# Altium schematic symbol library 6437288-6.SchLib: 1 symbol
Pins are listed as number, name and electrical type; pins without a type are passive.

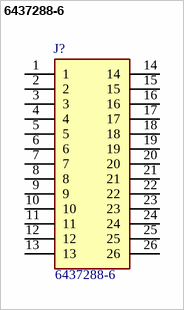
[diagram p0: symbol 6437288-6]

## 6437288-6
designator J?
Header vert 26 way 4 row Tab Superseal; Manufacturer_Name: TE Connectivity; Geometry.Height: 24.7mm; Mouser Part Number: 571-6437288-6; Mouser Price/Stock: https://www.mouser.co.uk/ProductDetail/TE-Connectivity-AMP/6437288-6?qs=PZo9TgaVsd8aPKRekLZQ8g%3D%3D; Manufacturer_Part_Number: 6437288-6; Datasheet Link: https://www.te.com/commerce/DocumentDelivery/DDEController?Action=showdoc&DocId=Customer+Drawing%7F1437288-6%7FA2%7Fpdf%7FJapanese%7FJPN_CD_1437288-6_A2.pdf%7F6437288-6
footprint 64372886
pins: 1, 2, 3, 4, 5, 6, 7, 8, 9, 10, 11, 12, 13, 14, 15, 16, 17, 18, 19, 20, 21, 22, 23, 24, 25, 26